# Altium footprint library HEADER_2x5_100mil_NP.PcbLib: 1 footprints
Each footprint in its own frame and in the unit in brackets; x right, y up, seen from the top. Pads: shape width x height; smd on the part's side, far side on the other; paste and mask are expansions set on the pad; w line width, h text height; cw(c..) or ccw(c..) is an arc to the next point about the centre after c.
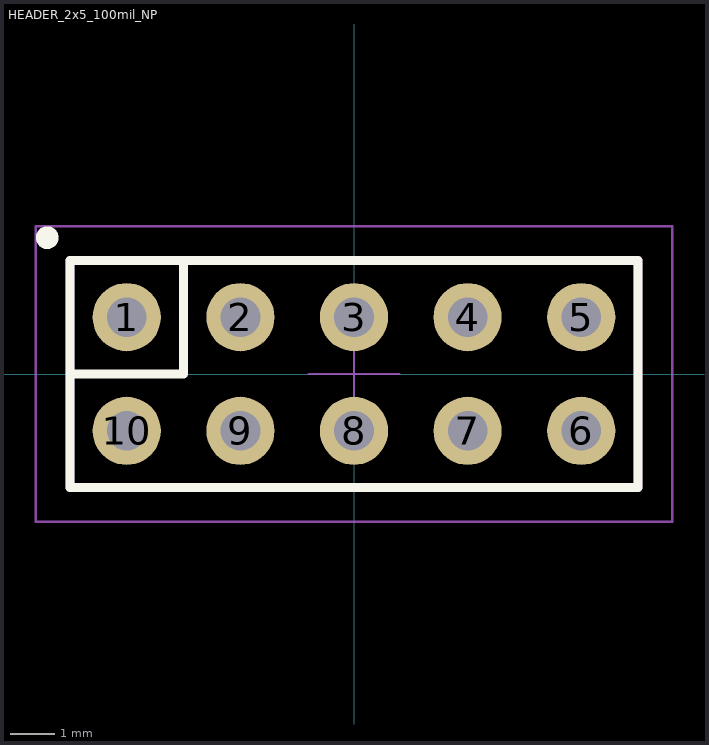
[diagram p0: the footprint, top view; thin cyan lines are the x and y axes]

## HEADER_2x5_100mil_NP [mil]
pads (10):
  round 60 hole 35: 1(-200,50) 2(-100,50) 3(0,50) 4(100,50) 5(200,50) 6(200,-50) 7(100,-50) 8(0,-50) 9(-100,-50) 10(-200,-50)
Top Overlay:
  circle w10: c-270,120 r5
  lines w7.87: -150,100 -150,0 -250,0 ; -250,0 -250,-100 250,-100 250,0 250,100 -250,100 -250,0
Mechanical 15:
  lines w1.97: -40,0 40,0 ; 0,-40 0,40 ; -280,-130 280,-130 280,130 -280,130 -280,-130
Mechanical 17:
  lines w7.87: -250,-100 250,-100 250,100 -250,100 -250,-100
  text ".Designator" at -240,10 h30
Mechanical 19:
  lines w7.87: -250,-100 -250,100 250,100 250,-100 -250,-100
  text ".Comment" at -235,15 h30